# Altium footprint library FootPrintLib_6.PcbLib: 588 footprints (part 29 of 37)
Each footprint in its own frame and in the unit in brackets; x right, y up, seen from the top. Pads: shape width x height; smd on the part's side, far side on the other; paste and mask are expansions set on the pad; w line width, h text height; cw(c..) or ccw(c..) is an arc to the next point about the centre after c.
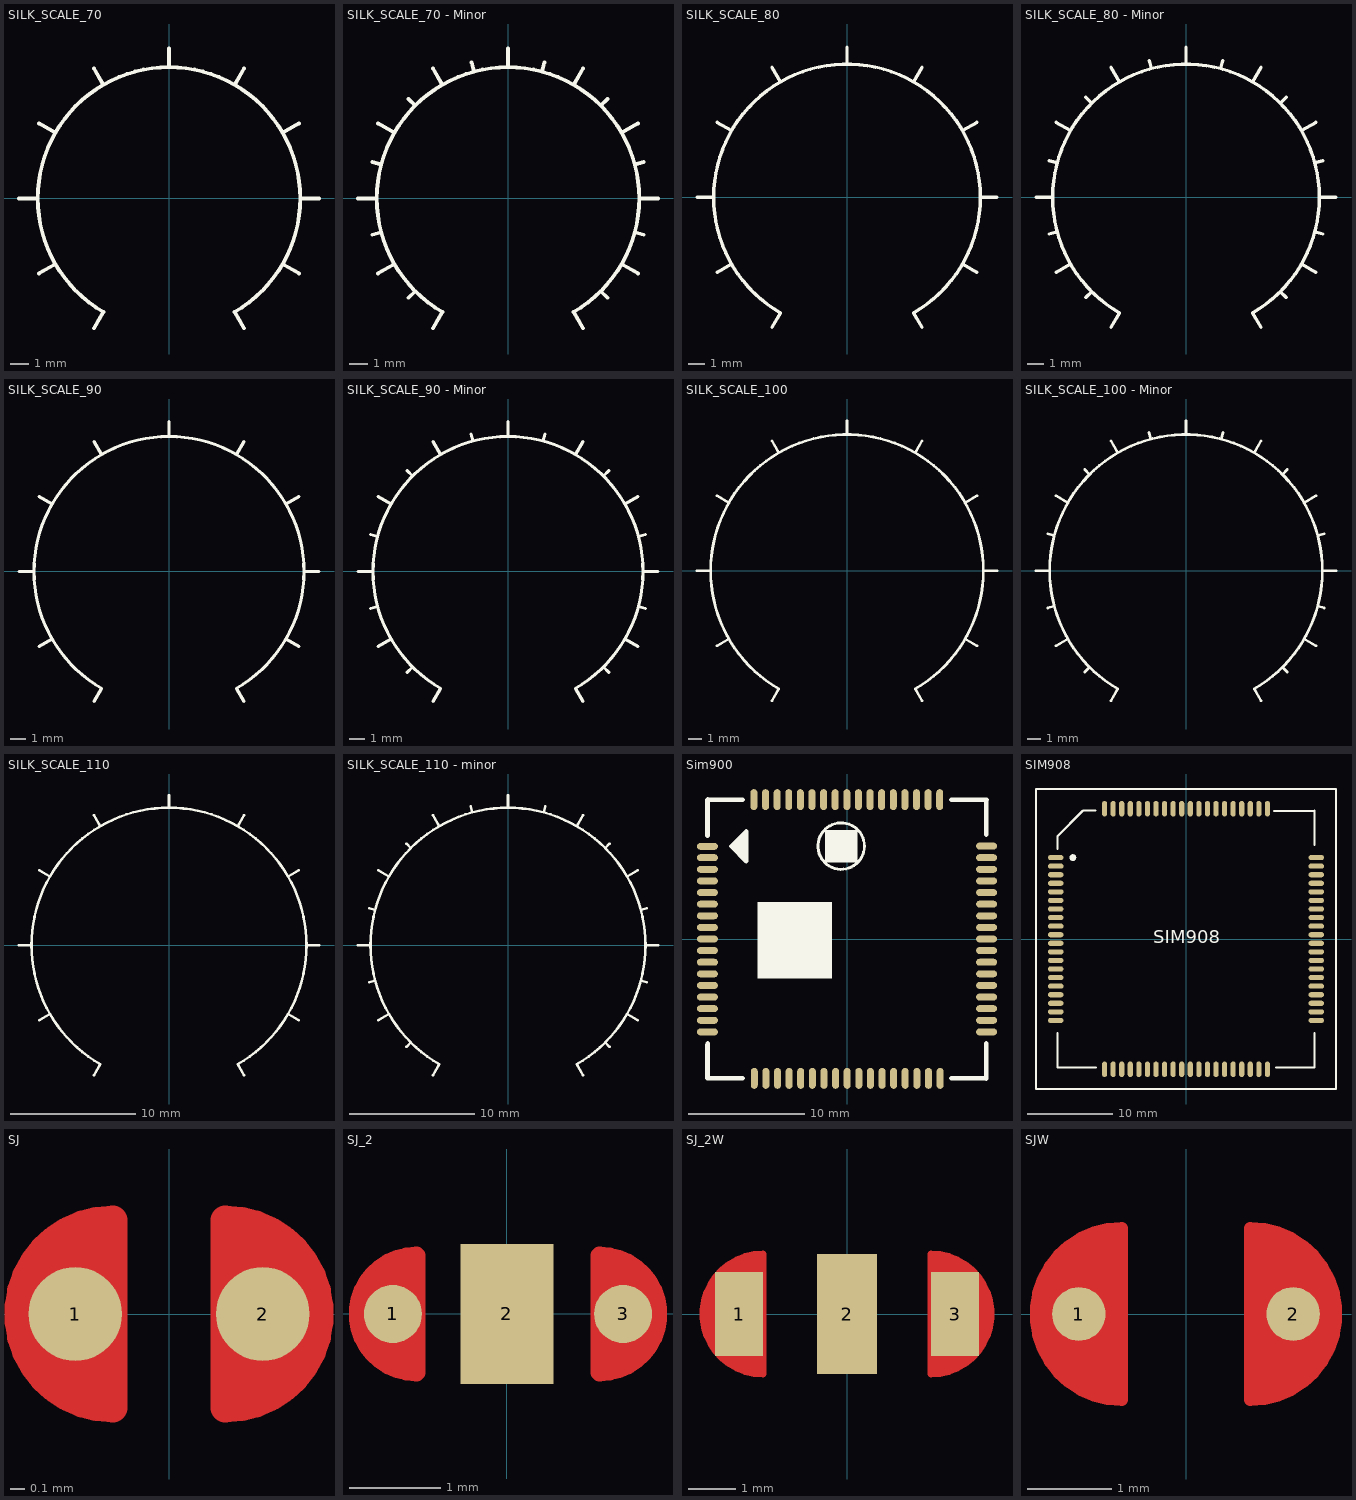
[diagram p28: the footprints below, top view; thin cyan lines are the x and y axes]

## SILK_SCALE_70 [mm]
Top Overlay:
  lines w0.203: -8,0 -7,0 ; -6.928,-4 -6.062,-3.5 ; -6.928,4 -6.062,3.5 ; -4,-6.928 -3.5,-6.062 cw(c0,0) 3.5,-6.062 4,-6.928 ; -4,6.928 -3.5,6.062 ; 0,7 0,8 ; 3.5,6.062 4,6.928 ; 6.062,-3.5 6.928,-4 ; 6.062,3.5 6.928,4 ; 7,0 8,0

## SILK_SCALE_70 - Minor [mm]
Top Overlay:
  lines w0.203: -8,0 -7,0 ; -7.244,-1.941 -6.761,-1.812 ; -7.244,1.941 -6.761,1.812 ; -6.928,-4 -6.062,-3.5 ; -6.928,4 -6.062,3.5 ; -5.303,-5.303 -4.95,-4.95 ; -5.303,5.303 -4.95,4.95 ; -4,-6.928 -3.5,-6.062 cw(c0,0) 3.5,-6.062 4,-6.928 ; -4,6.928 -3.5,6.062 ; -1.941,7.244 -1.812,6.761 ; 0,7 0,8 ; 1.812,6.761 1.941,7.244 ; 3.5,6.062 4,6.928 ; 4.95,-4.95 5.303,-5.303 ; 4.95,4.95 5.303,5.303 ; 6.062,-3.5 6.928,-4 ; 6.062,3.5 6.928,4 ; 6.761,-1.812 7.244,-1.941 ; 6.761,1.812 7.244,1.941 ; 7,0 8,0

## SILK_SCALE_80 [mm]
Top Overlay:
  lines w0.203: -9,0 -8,0 ; -7.794,-4.5 -6.928,-4 ; -7.794,4.5 -6.928,4 ; -4.5,-7.794 -4,-6.928 cw(c0,0) 4,-6.928 4.5,-7.794 ; -4.5,7.794 -4,6.928 ; 0,8 0,9 ; 4,6.928 4.5,7.794 ; 6.928,-4 7.794,-4.5 ; 6.928,4 7.794,4.5 ; 8,0 9,0

## SILK_SCALE_80 - Minor [mm]
Top Overlay:
  lines w0.203: -9,0 -8,0 ; -8.21,-2.2 -7.727,-2.071 ; -8.21,2.2 -7.727,2.071 ; -7.794,-4.5 -6.928,-4 ; -7.794,4.5 -6.928,4 ; -6.01,-6.01 -5.657,-5.657 ; -6.01,6.01 -5.657,5.657 ; -4.5,-7.794 -4,-6.928 cw(c0,0) 4,-6.928 4.5,-7.794 ; -4.5,7.794 -4,6.928 ; -2.2,8.21 -2.071,7.727 ; 0,8 0,9 ; 2.071,7.727 2.2,8.21 ; 4,6.928 4.5,7.794 ; 5.657,-5.657 6.01,-6.01 ; 5.657,5.657 6.01,6.01 ; 6.928,-4 7.794,-4.5 ; 6.928,4 7.794,4.5 ; 7.727,-2.071 8.21,-2.2 ; 7.727,2.071 8.21,2.2 ; 8,0 9,0

## SILK_SCALE_90 [mm]
Top Overlay:
  lines w0.203: -10,0 -9,0 ; -8.66,-5 -7.794,-4.5 ; -8.66,5 -7.794,4.5 ; -5,-8.66 -4.5,-7.794 cw(c0,0) 4.5,-7.794 5,-8.66 ; -5,8.66 -4.5,7.794 ; 0,9 0,10 ; 4.5,7.794 5,8.66 ; 7.794,-4.5 8.66,-5 ; 7.794,4.5 8.66,5 ; 9,0 10,0

## SILK_SCALE_90 - Minor [mm]
Top Overlay:
  lines w0.203: -10,0 -9,0 ; -9.176,-2.459 -8.693,-2.329 ; -9.176,2.459 -8.693,2.329 ; -8.66,-5 -7.794,-4.5 ; -8.66,5 -7.794,4.5 ; -6.718,-6.718 -6.364,-6.364 ; -6.718,6.718 -6.364,6.364 ; -5,-8.66 -4.5,-7.794 cw(c0,0) 4.5,-7.794 5,-8.66 ; -5,8.66 -4.5,7.794 ; -2.459,9.176 -2.329,8.693 ; 0,9 0,10 ; 2.329,8.693 2.459,9.176 ; 4.5,7.794 5,8.66 ; 6.364,-6.364 6.718,-6.718 ; 6.364,6.364 6.718,6.718 ; 7.794,-4.5 8.66,-5 ; 7.794,4.5 8.66,5 ; 8.693,-2.329 9.176,-2.459 ; 8.693,2.329 9.176,2.459 ; 9,0 10,0

## SILK_SCALE_100 [mm]
Top Overlay:
  lines w0.203: -11,0 -10,0 ; -9.526,-5.5 -8.66,-5 ; -9.526,5.5 -8.66,5 ; -5.5,-9.526 -5,-8.66 cw(c0,0) 5,-8.66 5.5,-9.526 ; -5.5,9.526 -5,8.66 ; 0,10 0,11 ; 5,8.66 5.5,9.526 ; 8.66,-5 9.526,-5.5 ; 8.66,5 9.526,5.5 ; 10,0 11,0

## SILK_SCALE_100 - Minor [mm]
Top Overlay:
  lines w0.203: -11,0 -10,0 ; -10.142,-2.718 -9.659,-2.588 ; -10.142,2.718 -9.659,2.588 ; -9.526,-5.5 -8.66,-5 ; -9.526,5.5 -8.66,5 ; -7.425,-7.425 -7.071,-7.071 ; -7.425,7.425 -7.071,7.071 ; -5.5,-9.526 -5,-8.66 cw(c0,0) 5,-8.66 5.5,-9.526 ; -5.5,9.526 -5,8.66 ; -2.718,10.142 -2.588,9.659 ; 0,10 0,11 ; 2.588,9.659 2.718,10.142 ; 5,8.66 5.5,9.526 ; 7.071,-7.071 7.425,-7.425 ; 7.071,7.071 7.425,7.425 ; 8.66,-5 9.526,-5.5 ; 8.66,5 9.526,5.5 ; 9.659,-2.588 10.142,-2.718 ; 9.659,2.588 10.142,2.718 ; 10,0 11,0

## SILK_SCALE_110 [mm]
Top Overlay:
  lines w0.203: -12,0 -11,0 ; -10.392,-6 -9.526,-5.5 ; -10.392,6 -9.526,5.5 ; -6,-10.392 -5.5,-9.526 cw(c0,0) 5.5,-9.526 6,-10.392 ; -6,10.392 -5.5,9.526 ; 0,11 0,12 ; 5.5,9.526 6,10.392 ; 9.526,-5.5 10.392,-6 ; 9.526,5.5 10.392,6 ; 11,0 12,0

## SILK_SCALE_110 - minor [mm]
Top Overlay:
  lines w0.203: -12,0 -11,0 ; -11.108,-2.976 -10.625,-2.847 ; -11.108,2.976 -10.625,2.847 ; -10.392,-6 -9.526,-5.5 ; -10.392,6 -9.526,5.5 ; -8.132,-8.132 -7.778,-7.778 ; -8.132,8.132 -7.778,7.778 ; -6,-10.392 -5.5,-9.526 cw(c0,0) 5.5,-9.526 6,-10.392 ; -6,10.392 -5.5,9.526 ; -2.976,11.108 -2.847,10.625 ; 0,11 0,12 ; 2.847,10.625 2.976,11.108 ; 5.5,9.526 6,10.392 ; 7.778,-7.778 8.132,-8.132 ; 7.778,7.778 8.132,8.132 ; 9.526,-5.5 10.392,-6 ; 9.526,5.5 10.392,6 ; 10.625,-2.847 11.108,-2.976 ; 10.625,2.847 11.108,2.976 ; 11,0 12,0

## Sim900 [mm]
pads (68):
  oval 1.8x0.6 smd mask+0.102: 1(-12.016,7.981) 2(-12.016,7) 3(-12.016,6) 4(-12.016,5) 5(-12.016,4) 6(-12.016,3) 7(-12.016,2) 8(-12.016,1) 9(-12.016,0) 10(-12.016,-1) 11(-12.016,-2) 12(-12.016,-3) 13(-12.016,-4) 14(-12.016,-5) 15(-12.016,-6) 16(-12.016,-7) 17(-12.016,-8) 35(12.016,-8) 36(12.016,-7) 37(12.016,-6) 38(12.016,-5) 39(12.016,-4) 40(12.016,-3) 41(12.016,-2) 42(12.016,-1) 43(12.016,0) 44(12.016,1) 45(12.016,1.994) 46(12.016,3) 47(12.016,4) 48(12.016,5) 49(12.016,6) 50(12.016,7) 51(12.016,8)
  oval 0.6x1.8 smd mask+0.102: 18(-7.985,-12) 19(-6.984,-12) 20(-5.985,-12) 21(-4.985,-12) 22(-3.985,-12) 23(-2.984,-12) 24(-1.984,-12) 25(-0.985,-12) 26(0.015,-12) 27(1.015,-12) 28(2.016,-12) 29(3.015,-12) 30(4.015,-12) 31(5.01,-12) 32(6.015,-12) 33(7.016,-12) 34(8.016,-12) 52(7.984,12) 53(6.984,12) 54(5.984,12) 55(4.984,12) 56(3.984,12) 57(2.984,12) 58(1.984,12) 59(0.984,12) 60(-0.016,12) 61(-1.016,12) 62(-2.016,12) 63(-3.016,12) 64(-4.016,12) 65(-5.016,12) 66(-6.016,12) 67(-7.016,12) 68(-8.016,12)
Top Layer:
  lines w0.4: 12,-0.984 12.016,-1
Top Overlay:
  circle w0.254: c-0.5,8 r2
  rectangle: -7.7,-3.4 -1.3,3.2
  rectangle: -1.9,6.6 0.9,9.4
  lines w0.4: -12.016,-9.1 -12.016,-12 -9,-12 ; -12.016,8.9 -12.016,12 -9,12 -11.984,12 ; -12,-11.984 -12,-9 ; -12,9 -12,12.016 ; -9.433,7.474 -9.433,8.44 ; -9.046,7.099 -9.046,8.877 ; -8.671,7.982 -9.941,7.982 ; 9,-12 11.984,-12 11.984,-9.1 ; 11.966,12 9,12 12.016,12 ; 11.984,9.1 11.984,12 ; 12,-12.015 12,-9 ; 12,9 12,11.985 ; -9.941,7.982 -8.671,6.712 -8.671,9.252 -9.941,7.982 ; -7.285,-2.8 -1.685,-2.8 -1.685,2.8 -7.285,2.8 -7.285,-2.8

## SIM908 [mm]
pads (81):
  round 0.8 on Top Overlay: 0(-13.193,9.5)
  oval 1.8x0.6 smd: 1(-15.2,9.5) 2(-15.2,8.5) 3(-15.2,7.5) 4(-15.2,6.5) 5(-15.2,5.5) 6(-15.2,4.5) 7(-15.2,3.5) 8(-15.2,2.5) 9(-15.2,1.5) 10(-15.2,0.5) 11(-15.2,-0.5) 12(-15.2,-1.5) 13(-15.2,-2.5) 14(-15.2,-3.5) 15(-15.2,-4.5) 16(-15.2,-5.5) 17(-15.2,-6.5) 18(-15.2,-7.5) 19(-15.2,-8.5) 20(-15.2,-9.5) 41(15.2,-9.5) 42(15.2,-8.5) 43(15.2,-7.5) 44(15.2,-6.5) 45(15.2,-5.5) 46(15.2,-4.5) 47(15.2,-3.5) 48(15.2,-2.5) 49(15.2,-1.5) 50(15.2,-0.5) 51(15.2,0.5) 52(15.2,1.5) 53(15.2,2.5) 54(15.2,3.5) 55(15.2,4.5) 56(15.2,5.5) 57(15.2,6.5) 58(15.2,7.5) 59(15.2,8.5) 60(15.2,9.5)
  oval 0.6x1.8 smd: 21(-9.5,-15.2) 22(-8.5,-15.2) 23(-7.5,-15.2) 24(-6.5,-15.2) 25(-5.5,-15.2) 26(-4.5,-15.2) 27(-3.5,-15.2) 28(-2.5,-15.2) 29(-1.5,-15.2) 30(-0.5,-15.2) 31(0.5,-15.2) 32(1.5,-15.2) 33(2.5,-15.2) 34(3.5,-15.2) 35(4.5,-15.2) 36(5.5,-15.2) 37(6.5,-15.2) 38(7.5,-15.2) 39(8.5,-15.2) 40(9.5,-15.2) 61(9.5,15.2) 62(8.5,15.2) 63(7.5,15.2) 64(6.5,15.2) 65(5.5,15.2) 66(4.5,15.2) 67(3.5,15.2) 68(2.5,15.2) 69(1.5,15.2) 70(0.5,15.2) 71(-0.5,15.2) 72(-1.5,15.2) 73(-2.5,15.2) 74(-3.5,15.2) 75(-4.5,15.2) 76(-5.5,15.2) 77(-6.5,15.2) 78(-7.5,15.2) 79(-8.5,15.2) 80(-9.5,15.2)
Top Overlay:
  lines w0.254: -15,-11 -15,-15 -10.5,-15 ; -15,10.5 -15,12 -12.076,14.924 -12,14.924 -12,15 -10.576,15 ; 10.298,14.924 14.924,14.924 ; 10.5,-15 15,-15 15,-11 ; 14.924,17.5 17.5,17.5 17.5,-17.5 -17.5,-17.5 -17.5,17.5 15,17.5 ; 15,11 15,15
  text "SIM908" at -3.81,-0.508 h1.52
3D body "User Library-SIM908.STEP": height 3.09, standoff -0.11, extent -14.968,-15.042 15.032,14.958

## SJ [mm] "SMD Jumper"
pads (2):
  round 0.635 smd mask-1.27: 1(-0.635,0) 2(0.635,0)
Top Layer:
  lines w0.2: -0.381,-0.635 cw(c-0.381,0) -0.381,0.635 -0.381,-0.635 ; 0.381,-0.635 ccw(c0.381,0) 0.381,0.635 0.381,-0.635
  lines w0.254: -0.889,-0.279 -0.889,0.279 ; -0.762,-0.406 -0.762,0.406 ; -0.635,-0.508 -0.635,0.508 ; -0.508,-0.559 -0.508,0.559 ; 0.508,-0.559 0.508,0.559 ; 0.635,-0.508 0.635,0.508 ; 0.762,-0.406 0.762,0.406 ; 0.889,-0.279 0.889,0.279
Top Solder:
  lines w0.305: -0.889,-0.279 -0.889,0.279 ; -0.762,-0.406 -0.762,0.406 ; -0.635,-0.508 -0.635,0.508 ; -0.508,-0.559 -0.508,0.559 ; 0.508,-0.559 0.508,0.559 ; 0.635,-0.508 0.635,0.508 ; 0.762,-0.406 0.762,0.406 ; 0.889,-0.279 0.889,0.279 ; -0.381,-0.635 cw(c-0.381,0) -0.381,0.635 -0.381,-0.635 ; 0.381,-0.635 ccw(c0.381,0) 0.381,0.635 0.381,-0.635

## SJ_2 [mil]
pads (3):
  round 25 smd mask-50: 1(-49,0) 3(50,0)
  rect 40x60 smd mask+2: 2(0,0)
Top Layer:
  lines w7.87: -39,-25 cw(c-39,0) -39,25 -39,-25 ; 40,-25 ccw(c40,0) 40,25 40,-25
  lines w10: -59,-11 -59,11 ; -54,-16 -54,16 ; -49,-20 -49,20 ; -44,-22 -44,22 ; 45,-22 45,22 ; 50,-20 50,20 ; 55,-16 55,16 ; 60,-11 60,11
Top Solder:
  lines w12: -59,-11 -59,11 ; -54,-16 -54,16 ; -49,-20 -49,20 ; -44,-22 -44,22 ; 45,-22 45,22 ; 50,-20 50,20 ; 55,-16 55,16 ; 60,-11 60,11 ; -39,-25 cw(c-39,0) -39,25 -39,-25 ; 40,-25 ccw(c40,0) 40,25 40,-25

## SJ_2W [mil]
pads (3):
  rect 40x70 smd mask-50: 1(-90,0) 3(90,0)
  rect 50x100 smd: 2(0,0)
Top Layer:
  rectangle: -103,35 -70,40
  rectangle: -96,40 -70,45
  rectangle: -89,45 -70,49
  rectangle: -89,-49 -70,-45
  rectangle: -96,-45 -70,-40
  rectangle: -103,-40 -70,-35
  rectangle: -114,-29 -110,29
  rectangle: -119,-20 -114,20
  rectangle: -121,-10 -117,10
  region: 121,10 117,10 117,-10 121,-10
  region: 119,20 114,20 114,-20 119,-20
  region: 114,29 110,29 110,-29 114,-29
  region: 103,-35 70,-35 70,-40 103,-40
  region: 96,-40 70,-40 70,-45 96,-45
  region: 89,-45 70,-45 70,-49 89,-49
  region: 89,49 70,49 70,45 89,45
  region: 96,45 70,45 70,40 96,40
  region: 103,40 70,40 70,35 103,35
  lines w6: 70,-50 ccw(c70,0) 70,50 ; 70,-50 ccw(c70,0) 70,50 ; 70,-50 70,50 ; 70,-50 70,50 ; -70,-50 cw(c-70,0) -70,50 -70,-50
Top Solder:
  rectangle: 70,-35 110,35
  rectangle: -110,-35 -70,35
  region: 103,40 70,40 70,35 103,35
  region: 96,45 70,45 70,40 96,40
  region: 89,49 70,49 70,45 89,45
  region: 89,-45 70,-45 70,-49 89,-49
  region: 96,-40 70,-40 70,-45 96,-45
  region: 103,-35 70,-35 70,-40 103,-40
  region: 114,29 110,29 110,-29 114,-29
  region: 119,20 114,20 114,-20 119,-20
  region: 121,10 117,10 117,-10 121,-10
  rectangle: -121,-10 -117,10
  rectangle: -119,-20 -114,20
  rectangle: -114,-29 -110,29
  rectangle: -103,-40 -70,-35
  rectangle: -96,-45 -70,-40
  rectangle: -89,-49 -70,-45
  rectangle: -89,45 -70,49
  rectangle: -96,40 -70,45
  rectangle: -103,35 -70,40
  lines w15: 70,-50 ccw(c70,0) 70,50 ; 70,-50 ccw(c70,0) 70,50 ; 70,-50 70,50 ; 70,-50 70,50 ; -70,-50 cw(c-70,0) -70,50 -70,-50

## SJW [mm] "SMD Jumper Wide"
pads (2):
  round 0.635 smd mask-1.27: 1(-1.27,0) 2(1.27,0)
Top Layer:
  rectangle: -1.626,-0.635 -0.762,0.61
  rectangle: -1.473,0.61 -0.762,0.762
  rectangle: -1.346,0.762 -0.762,0.889
  rectangle: -1.143,0.889 -0.762,0.991
  rectangle: -1.143,-0.991 -0.762,-0.889
  rectangle: -1.346,-0.889 -0.762,-0.762
  rectangle: -1.473,-0.762 -0.762,-0.61
  rectangle: -1.753,-0.406 -1.626,0.406
  region: 1.753,0.406 1.626,0.406 1.626,-0.406 1.753,-0.406
  region: 1.473,-0.61 0.762,-0.61 0.762,-0.762 1.473,-0.762
  region: 1.346,-0.762 0.762,-0.762 0.762,-0.889 1.346,-0.889
  region: 1.143,-0.889 0.762,-0.889 0.762,-0.991 1.143,-0.991
  region: 1.143,0.991 0.762,0.991 0.762,0.889 1.143,0.889
  region: 1.346,0.889 0.762,0.889 0.762,0.762 1.346,0.762
  region: 1.473,0.762 0.762,0.762 0.762,0.61 1.473,0.61
  region: 1.626,0.61 0.762,0.61 0.762,-0.635 1.626,-0.635
  lines w0.152: -0.762,-1.016 cw(c-0.762,0) -0.762,1.016 -0.762,-1.016 ; 0.762,-1.016 ccw(c0.762,0) 0.762,1.016 0.762,-1.016
Top Solder:
  region: 1.626,0.61 0.762,0.61 0.762,-0.635 1.626,-0.635
  region: 1.473,0.762 0.762,0.762 0.762,0.61 1.473,0.61
  region: 1.346,0.889 0.762,0.889 0.762,0.762 1.346,0.762
  region: 1.143,0.991 0.762,0.991 0.762,0.889 1.143,0.889
  region: 1.143,-0.889 0.762,-0.889 0.762,-0.991 1.143,-0.991
  region: 1.346,-0.762 0.762,-0.762 0.762,-0.889 1.346,-0.889
  region: 1.473,-0.61 0.762,-0.61 0.762,-0.762 1.473,-0.762
  region: 1.753,0.406 1.626,0.406 1.626,-0.406 1.753,-0.406
  rectangle: -1.753,-0.406 -1.626,0.406
  rectangle: -1.473,-0.762 -0.762,-0.61
  rectangle: -1.346,-0.889 -0.762,-0.762
  rectangle: -1.143,-0.991 -0.762,-0.889
  rectangle: -1.143,0.889 -0.762,0.991
  rectangle: -1.346,0.762 -0.762,0.889
  rectangle: -1.473,0.61 -0.762,0.762
  rectangle: -1.626,-0.635 -0.762,0.61
  lines w0.305: -0.762,-1.016 cw(c-0.762,0) -0.762,1.016 -0.762,-1.016 ; 0.762,-1.016 ccw(c0.762,0) 0.762,1.016 0.762,-1.016